# Altium schematic symbol library Crystal.SchLib: 2 symbols
Pins are listed as number, name and electrical type; pins without a type are passive.

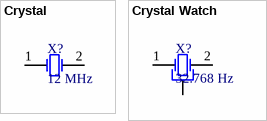
[diagram p0: symbols Crystal to Crystal Watch]

## Crystal
designator X?, comment 12 MHz
footprint HC49 (THT)
footprint HC49SM (SMD)
footprint XT324
pins: 1 OSC1, 2 OSC2

## Crystal Watch
designator X?, comment 32.768 Hz
footprint TC26
footprint TC26_V
pins: 1, 2, 3